# Altium integrated library LED3MM.IntLib: 1 symbol
Pins are listed as number, name and electrical type; pins without a type are passive.

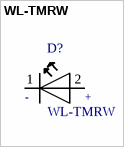
[diagram p0: symbol WL-TMRW]

## WL-TMRW
designator D?
LED, 3MM, RED, 2600MCD, 621NM; Bulb Size: T-1 _3mm_; LED Colour: Red; Luminous In; MP: 151033RS03000; MF: Wurth Electronics; Availability: Good; Price: 0.15 USD; Package: Radial WÃ¼rth Elektronik; SnapEDA_Link: https://www.snapeda.com/parts/151033RS03000/Wurth%2520Electronics%2520Inc/view-part/?ref=snap; Value: *
footprint LED-3MM-ROUND
pins: 1 NEG (io), 2 POS (io)
text: -; +